# Altium footprint library RESC1509X55N.PcbLib: 1 footprints
Each footprint in its own frame and in the unit in brackets; x right, y up, seen from the top. Pads: shape width x height; smd on the part's side, far side on the other; paste and mask are expansions set on the pad; w line width, h text height; cw(c..) or ccw(c..) is an arc to the next point about the centre after c.
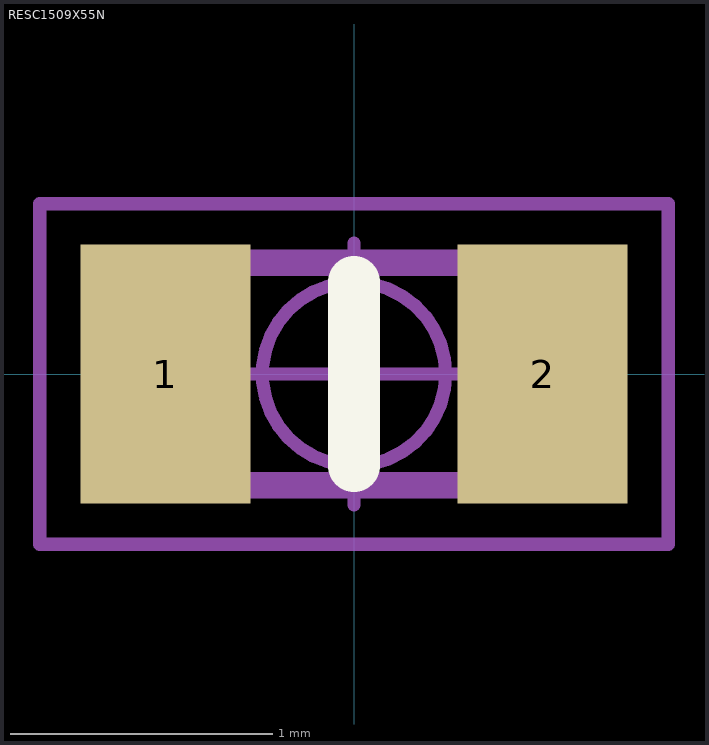
[diagram p0: the footprint, top view; thin cyan lines are the x and y axes]

## RESC1509X55N [mm] "Chip Resistor, EIA 0603, Metric 1608, 1.55mm L X 0.85mm W X 0.55mm H, IPC Medium Density"
height 0.55
pads (2):
  rect 0.65x0.99 smd: 1(-0.72,0) 2(0.72,0)
Top Overlay:
  lines w0.2: 0,-0.35 0,0.35
Mechanical 14:
  lines w0.1: -0.775,-0.425 -0.775,0.425 0.775,0.425 0.775,-0.425 -0.775,-0.425
Mechanical 15:
  circle w0.05: c0,0 r0.35
  lines w0.05: -0.5,0 0.5,0 ; 0,-0.5 0,0.5 ; -1.2,-0.65 -1.2,0.65 1.2,0.65 1.2,-0.65 -1.2,-0.65
3D body "RESC1509X55N.stp": height 0.55, standoff 0, extent -0.775,-0.425 0.775,0.425